# Altium schematic symbol library THN_20-xx1x.SchLib: 1 symbol
Pins are listed as number, name and electrical type; pins without a type are passive.

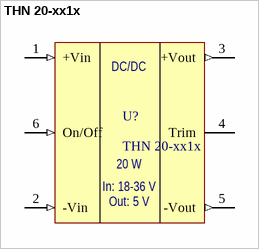
[diagram p0: symbol THN 20-xx1x]

## THN 20-xx1x
designator U?
DC-DC Converter; Наименование: TEN 20-xx1x; Потребление, Вт: 22; Назначение: DC-DC Converter; ComponentLink1Description: DataSheet; ComponentLink1URL: https://static.chipdip.ru/lib/377/DOC029377636.pdf
footprint THN 20-xxxx
pins: 1 +Vin (in), 2 -Vin (in), 3 +Vout (out), 4 Trim, 5 -Vout (out), 6 On/Off (in)
text: DC/DC; 20 W; In: 18-36 V; Out: 5 V